# EAGLE library part MAX6817EUT (library MAX6817EUT - CMOS Switch debouncer)
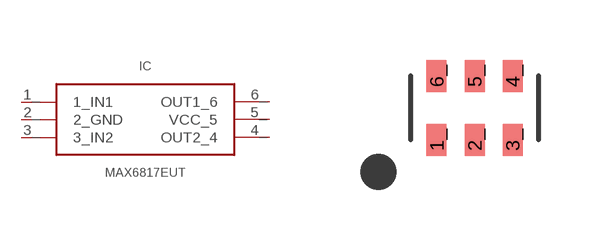
[diagram p0: symbol with the pads of SOT23-6; footprint SOT23-6]

Designator prefix IC

## MAX6817EUT  [SOT23-6]
1_  1_IN1
2_  2_GND
3_  3_IN2
4_  OUT2_4
5_  VCC_5
6_  OUT1_6

## Footprint SOT23-6 (pad centres in mm)
smd 0.5 x 0.8: 1_ -0.95,-0.8; 2_ 0,-0.8; 3_ 0.95,-0.8; 4_ 0.95,0.8; 5_ 0,0.8; 6_ -0.95,0.8